# Altium footprint library 3084.PcbLib: 1 footprints
Each footprint in its own frame and in the unit in brackets; x right, y up, seen from the top. Pads: shape width x height; smd on the part's side, far side on the other; paste and mask are expansions set on the pad; w line width, h text height; cw(c..) or ccw(c..) is an arc to the next point about the centre after c.
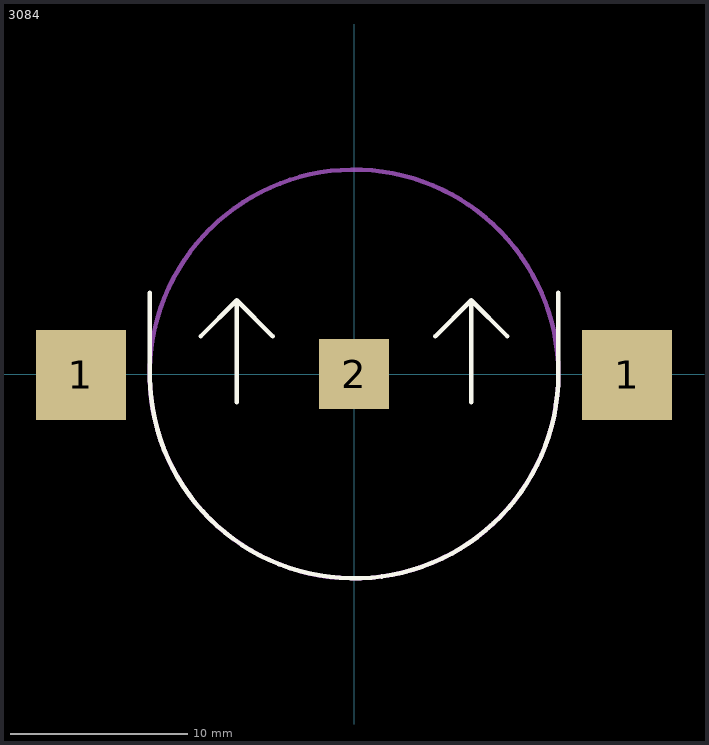
[diagram p0: the footprint, top view; thin cyan lines are the x and y axes]

## 3084 [mm] "CR2330 Battery Holder"
height 4
pads (3):
  rect 5.08x5.08 smd: 1(-15.365,-0.051) 1(15.365,-0.051)
  rect 3.96x3.96 smd: 2(0,0)
Top Overlay:
  lines w0.254: -11.5,4.572 -11.5,-0.184 ccw(c0,0) 11.501,0 ; -8.636,2.113 -6.604,4.145 ; -6.604,-1.583 -6.604,4.145 ; -4.572,2.113 -6.604,4.145 ; 4.572,2.113 6.604,4.145 ; 6.604,-1.583 6.604,4.145 ; 8.636,2.113 6.604,4.145 ; 11.5,-0.184 11.5,4.572
Mechanical 1:
  circle w0.254: c0,0 r11.5
Mechanical 15:
  lines w0.254: -1.27,0 1.27,0 ; 0,-1.27 0,1.27
3D body "CR2330_CoinBattery.step": height 3.3, standoff 0, extent -11.5,-11.684 11.5,11.316
3D body "3084TR.STEP": height 4, standoff 0.04, extent -17.005,-11.925 17.005,9.203